# Altium schematic symbol library time-delay-relay.SchLib: 11 symbols
Pins are listed as number, name and electrical type; pins without a type are passive.

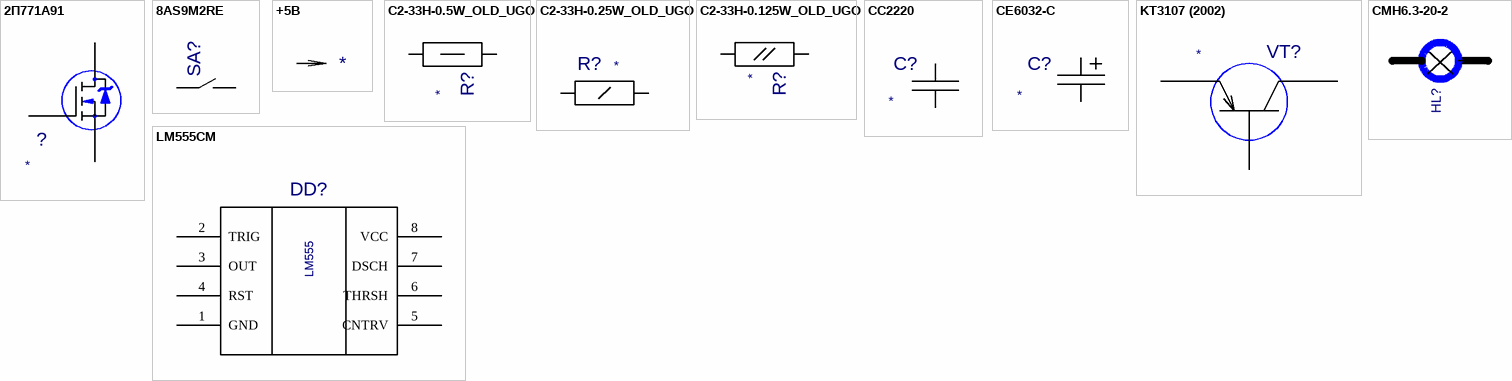
[diagram p0: symbols 2П771А91 to СМН6.3-20-2]

## 2П771А91
designator ?  (value not drawn)
Value: *
footprint D2PAK
pins: 1, 2 3, 3 2

## 8AS9M2RE
designator SA?  (value not drawn)
Value: *
footprint 8AS9M2RE
pins: 1, 2

## +5B
designator PWR?  (value not drawn)
Value: *
pins: 1 +5B (power)

## C2-33H-0.5W_OLD_UGO
designator R?  (value not drawn)
Value: *
footprint C2-33H-0.5W_15MM
pins: 1, 2

## C2-33H-0.25W_OLD_UGO
designator R?  (value not drawn)
Value: *
footprint C2-33H-0.25W
pins: 1, 2

## C2-33H-0.125W_OLD_UGO
designator R?  (value not drawn)
Value: *
footprint C2-33H-0.125W
pins: 1, 2

## CC2220
designator C?  (value not drawn)
Value: *
footprint CC2220
pins: 1, 2

## CE6032-C
designator C?  (value not drawn)
Value: *
footprint CE6032_C
pins: 1, 2

## KT3107 (2002)
designator VT?  (value not drawn)
Value: *
footprint KT26-1 (2002)
pins: 1 K, 2 B, 3 E

## LM555CM
designator DD?  (value not drawn)
Value: *
footprint SO-8
pins: 1 GND, 2 TRIG, 3 OUT, 4 RST, 5 CNTRV, 6 THRSH, 7 DSCH, 8 VCC
text: LM555

## СМН6.3-20-2
designator HL?  (value not drawn)
Value: *
footprint HL_MINI
pins: 1, 2